# Altium footprint library PCB - LEADLESS - BGA - INFINEON PG-BGA-24 8X6.PcbLib: 1 footprints
Each footprint in its own frame and in the unit in brackets; x right, y up, seen from the top. Pads: shape width x height; smd on the part's side, far side on the other; paste and mask are expansions set on the pad; w line width, h text height; cw(c..) or ccw(c..) is an arc to the next point about the centre after c.
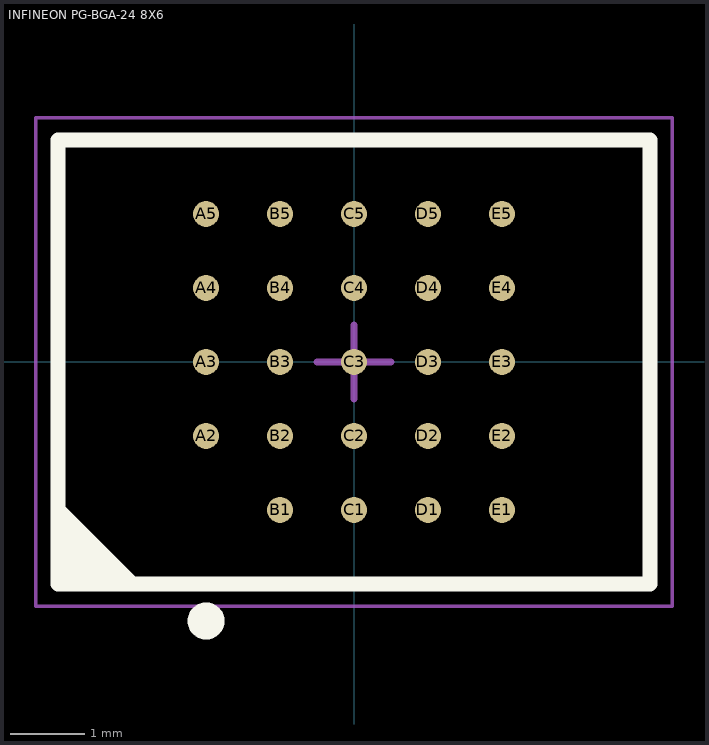
[diagram p0: the footprint, top view; thin cyan lines are the x and y axes]

## INFINEON PG-BGA-24 8X6 [mm] "BGA, 24-Leads, Body 6.00x8.00mmx1.00mm, Pitch 1.00mm"
height 1
pads (24):
  round 0.35 smd: A2(-2,-1) A3(-2,0) A4(-2,1) A5(-2,2) B1(-1,-2) B2(-1,-1) B3(-1,0) B4(-1,1) B5(-1,2) C1(0,-2) C2(0,-1) C3(0,0) C4(0,1) C5(0,2) D1(1,-2) D2(1,-1) D3(1,0) D4(1,1) D5(1,2) E1(2,-2) E2(2,-1) E3(2,0) E4(2,1) E5(2,2)
Top Overlay:
  circle w0.25: c-2,-3.5 r0.125
  region: -4,-2 -3,-3 -4,-3
  lines w0.2: -4,-2 -3,-3 ; -4,-3 -4,3 4,3 4,-3 -4,-3
Mechanical 13:
  lines w0.1: -4,-3 -4,3 4,3 4,-3 -4,-3
Mechanical 15:
  lines w0.05: -4.3,-3.3 -4.3,3.3 4.3,3.3 4.3,-3.3 -4.3,-3.3
  lines w0.1: -0.5,0 0.5,0 ; 0,-0.5 0,0.5
3D body "INFINEON PG-BGA-24.step": height 1, standoff 0, extent -4,-3 4,3